# EAGLE library part SP510CM-L (library Exar_By_element14_Batch_1)
ULTRA HIGH SPEED MULTIPROTOCOL TRANSCEIVER
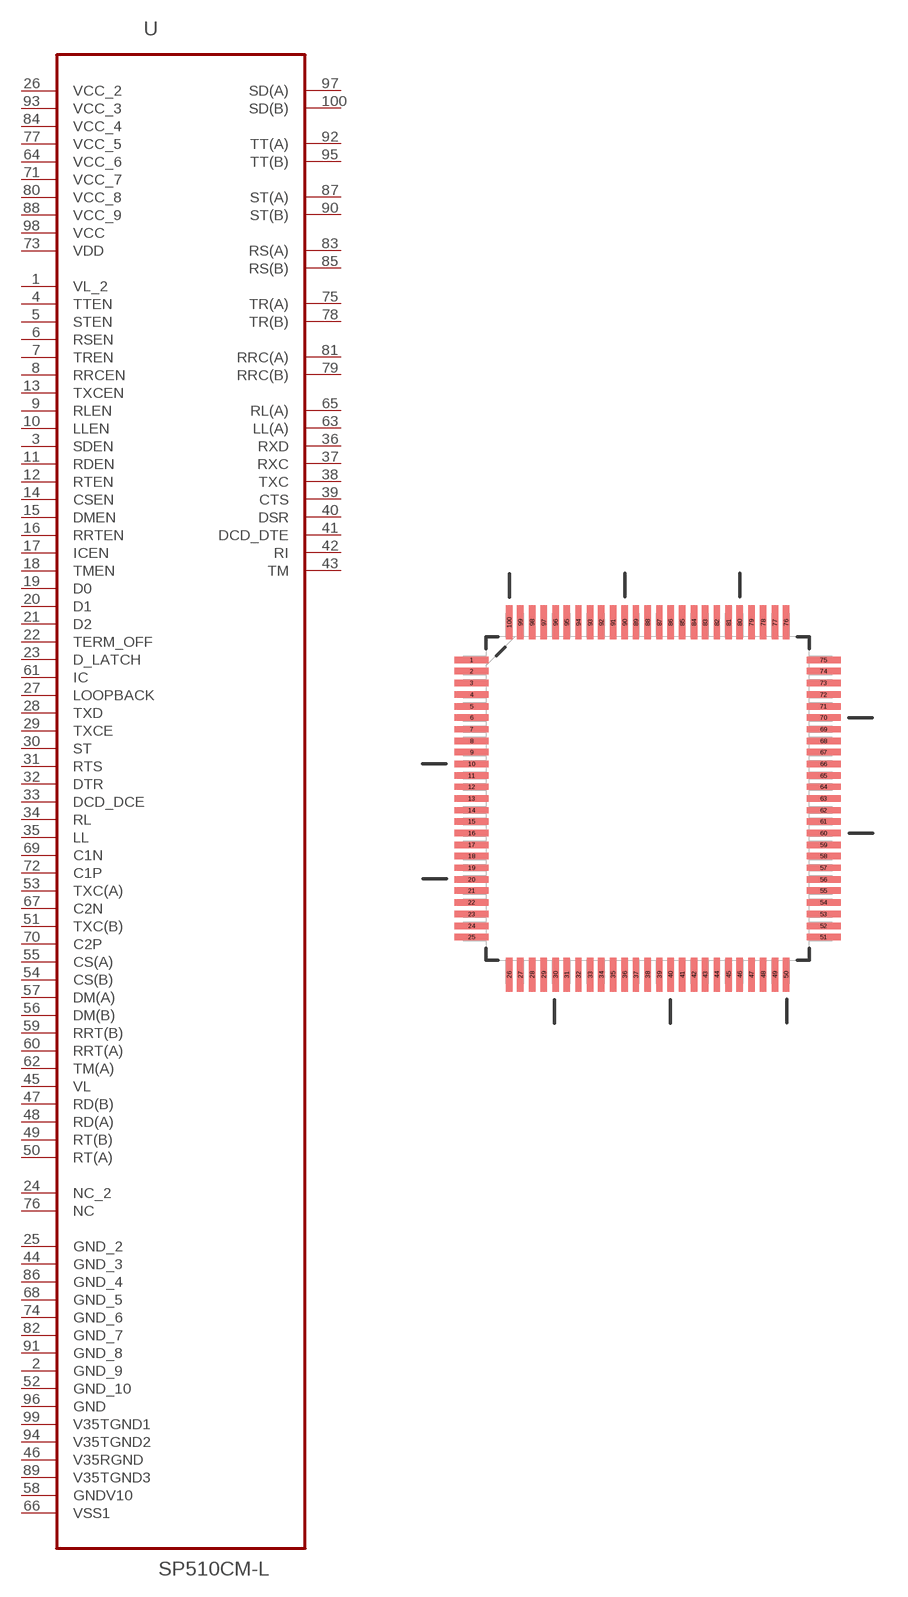
[diagram p55: symbol with the pads of QFP50P1600X1600X160-100N; footprint QFP50P1600X1600X160-100N]

Designator prefix U

## SP510CM-L (MPN: SP510CM-L; OC_FARNELL: 1821953; OC_NEWARK: 65R6133; PACKAGE: LQFP-100; SUPPLIER: Exar)  [QFP50P1600X1600X160-100N]
1  VL_2  pwr
2  GND_9  pas
3  SDEN  in
4  TTEN  in
5  STEN  in
6  RSEN  in
7  TREN  in
8  RRCEN  in
9  RLEN  in
10  LLEN  in
11  RDEN  in
12  RTEN  in
13  TXCEN  in
14  CSEN  in
15  DMEN  in
16  RRTEN  in
17  ICEN  in
18  TMEN  in
19  D0  in
20  D1  in
21  D2  in
22  TERM_OFF  in
23  D_LATCH  in
24  NC_2  nc
25  GND_2  pas
26  VCC_2  pwr
27  LOOPBACK  in
28  TXD  in
29  TXCE  in
30  ST  in
31  RTS  in
32  DTR  in
33  DCD_DCE  in
34  RL  in
35  LL  in
36  RXD  out
37  RXC  out
38  TXC  out
39  CTS  out
40  DSR  out
41  DCD_DTE  out
42  RI  out
43  TM  out
44  GND_3  pas
45  VL  pwr
46  V35RGND  pas
47  RD(B)  in
48  RD(A)  in
49  RT(B)  in
50  RT(A)  in
51  TXC(B)  in
52  GND_10  in
53  TXC(A)  in
54  CS(B)  in
55  CS(A)  in
56  DM(B)  in
57  DM(A)  in
58  GNDV10  in
59  RRT(B)  in
60  RRT(A)  in
61  IC  in
62  TM(A)  in
63  LL(A)  out
64  VCC_6  pwr
65  RL(A)  out
66  VSS1  pwr
67  C2N  in
68  GND_5  pas
69  C1N  in
70  C2P  in
71  VCC_7  pwr
72  C1P  in
73  VDD  pwr
74  GND_6  pas
75  TR(A)  out
76  NC  nc
77  VCC_5  pwr
78  TR(B)  out
79  RRC(B)  out
80  VCC_8  pwr
81  RRC(A)  in
82  GND_7  pas
83  RS(A)  out
84  VCC_4  pwr
85  RS(B)  out
86  GND_4  pas
87  ST(A)  in
88  VCC_9  pwr
89  V35TGND3  pas
90  ST(B)  out
91  GND_8  pas
92  TT(A)  out
93  VCC_3  pas
94  V35TGND2  pas
95  TT(B)  out
96  GND  pas
97  SD(A)  out
98  VCC  pwr
99  V35TGND1  pas
100  SD(B)  out

## Footprint QFP50P1600X1600X160-100N (pad centres in mm)
smd 1.473 x 0.279: 1 -7.62,5.994; 2 -7.62,5.512; 3 -7.62,5.004; 4 -7.62,4.496; 5 -7.62,3.988; 6 -7.62,3.505; 7 -7.62,2.997; 8 -7.62,2.489; 9 -7.62,2.007; 10 -7.62,1.499; 11 -7.62,0.991; 12 -7.62,0.508; 13 -7.62,0; 14 -7.62,-0.508; 15 -7.62,-0.991; 16 -7.62,-1.499; 17 -7.62,-2.007; 18 -7.62,-2.489; 19 -7.62,-2.997; 20 -7.62,-3.505; 21 -7.62,-3.988; 22 -7.62,-4.496; 23 -7.62,-5.004; 24 -7.62,-5.512; 25 -7.62,-5.994; 51 7.62,-5.994; 52 7.62,-5.512; 53 7.62,-5.004; 54 7.62,-4.496; 55 7.62,-3.988; 56 7.62,-3.505; 57 7.62,-2.997; 58 7.62,-2.489; 59 7.62,-2.007; 60 7.62,-1.499; 61 7.62,-0.991; 62 7.62,-0.508; 63 7.62,0; 64 7.62,0.508; 65 7.62,0.991; 66 7.62,1.499; 67 7.62,2.007; 68 7.62,2.489; 69 7.62,2.997; 70 7.62,3.505; 71 7.62,3.988; 72 7.62,4.496; 73 7.62,5.004; 74 7.62,5.512; 75 7.62,5.994
smd 0.279 x 1.473: 26 -5.994,-7.62; 27 -5.512,-7.62; 28 -5.004,-7.62; 29 -4.496,-7.62; 30 -3.988,-7.62; 31 -3.505,-7.62; 32 -2.997,-7.62; 33 -2.489,-7.62; 34 -2.007,-7.62; 35 -1.499,-7.62; 36 -0.991,-7.62; 37 -0.508,-7.62; 38 0,-7.62; 39 0.508,-7.62; 40 0.991,-7.62; 41 1.499,-7.62; 42 2.007,-7.62; 43 2.489,-7.62; 44 2.997,-7.62; 45 3.505,-7.62; 46 3.988,-7.62; 47 4.496,-7.62; 48 5.004,-7.62; 49 5.512,-7.62; 50 5.994,-7.62; 76 5.994,7.62; 77 5.512,7.62; 78 5.004,7.62; 79 4.496,7.62; 80 3.988,7.62; 81 3.505,7.62; 82 2.997,7.62; 83 2.489,7.62; 84 2.007,7.62; 85 1.499,7.62; 86 0.991,7.62; 87 0.508,7.62; 88 0,7.62; 89 -0.508,7.62; 90 -0.991,7.62; 91 -1.499,7.62; 92 -2.007,7.62; 93 -2.489,7.62; 94 -2.997,7.62; 95 -3.505,7.62; 96 -3.988,7.62; 97 -4.496,7.62; 98 -5.004,7.62; 99 -5.512,7.62; 100 -5.994,7.62